# EAGLE library part ORBIT-JST-ZH-4PIN (library ORBiT-con-JST-ZH)
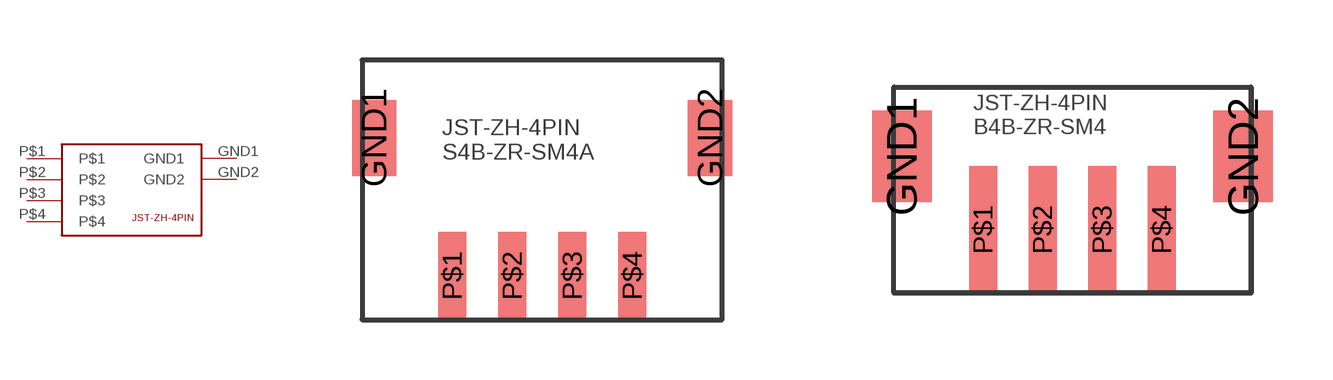
[diagram p0: symbol with the pads of S4B-ZR-SM4A; footprints S4B-ZR-SM4A, B4B-ZR-SM4]

Designator prefix -

## ORBIT-JST-ZH-4PINS4B-ZR-SM4A  [S4B-ZR-SM4A]
GND1  GND1
GND2  GND2
P$1  P$1
P$2  P$2
P$3  P$3
P$4  P$4

## ORBIT-JST-ZH-4PINB4B-ZR-SM4  [B4B-ZR-SM4]
Pads as for S4B-ZR-SM4A

## Footprint S4B-ZR-SM4A (pad centres in mm)
smd 1.1 x 1.9: GND1 0.3,4.55; GND2 8.7,4.55
smd 0.7 x 2.2: P$1 2.25,1.1; P$2 3.75,1.1; P$3 5.25,1.1; P$4 6.75,1.1

## Footprint B4B-ZR-SM4 (pad centres in mm)
smd 1.5 x 2.3: GND1 0.2,3.45; GND2 8.8,3.45
smd 0.7 x 3.2: P$1 2.25,1.6; P$2 3.75,1.6; P$3 5.25,1.6; P$4 6.75,1.6